# Altium schematic symbol library Module.SchLib: 22 symbols
Pins are listed as number, name and electrical type; pins without a type are passive.

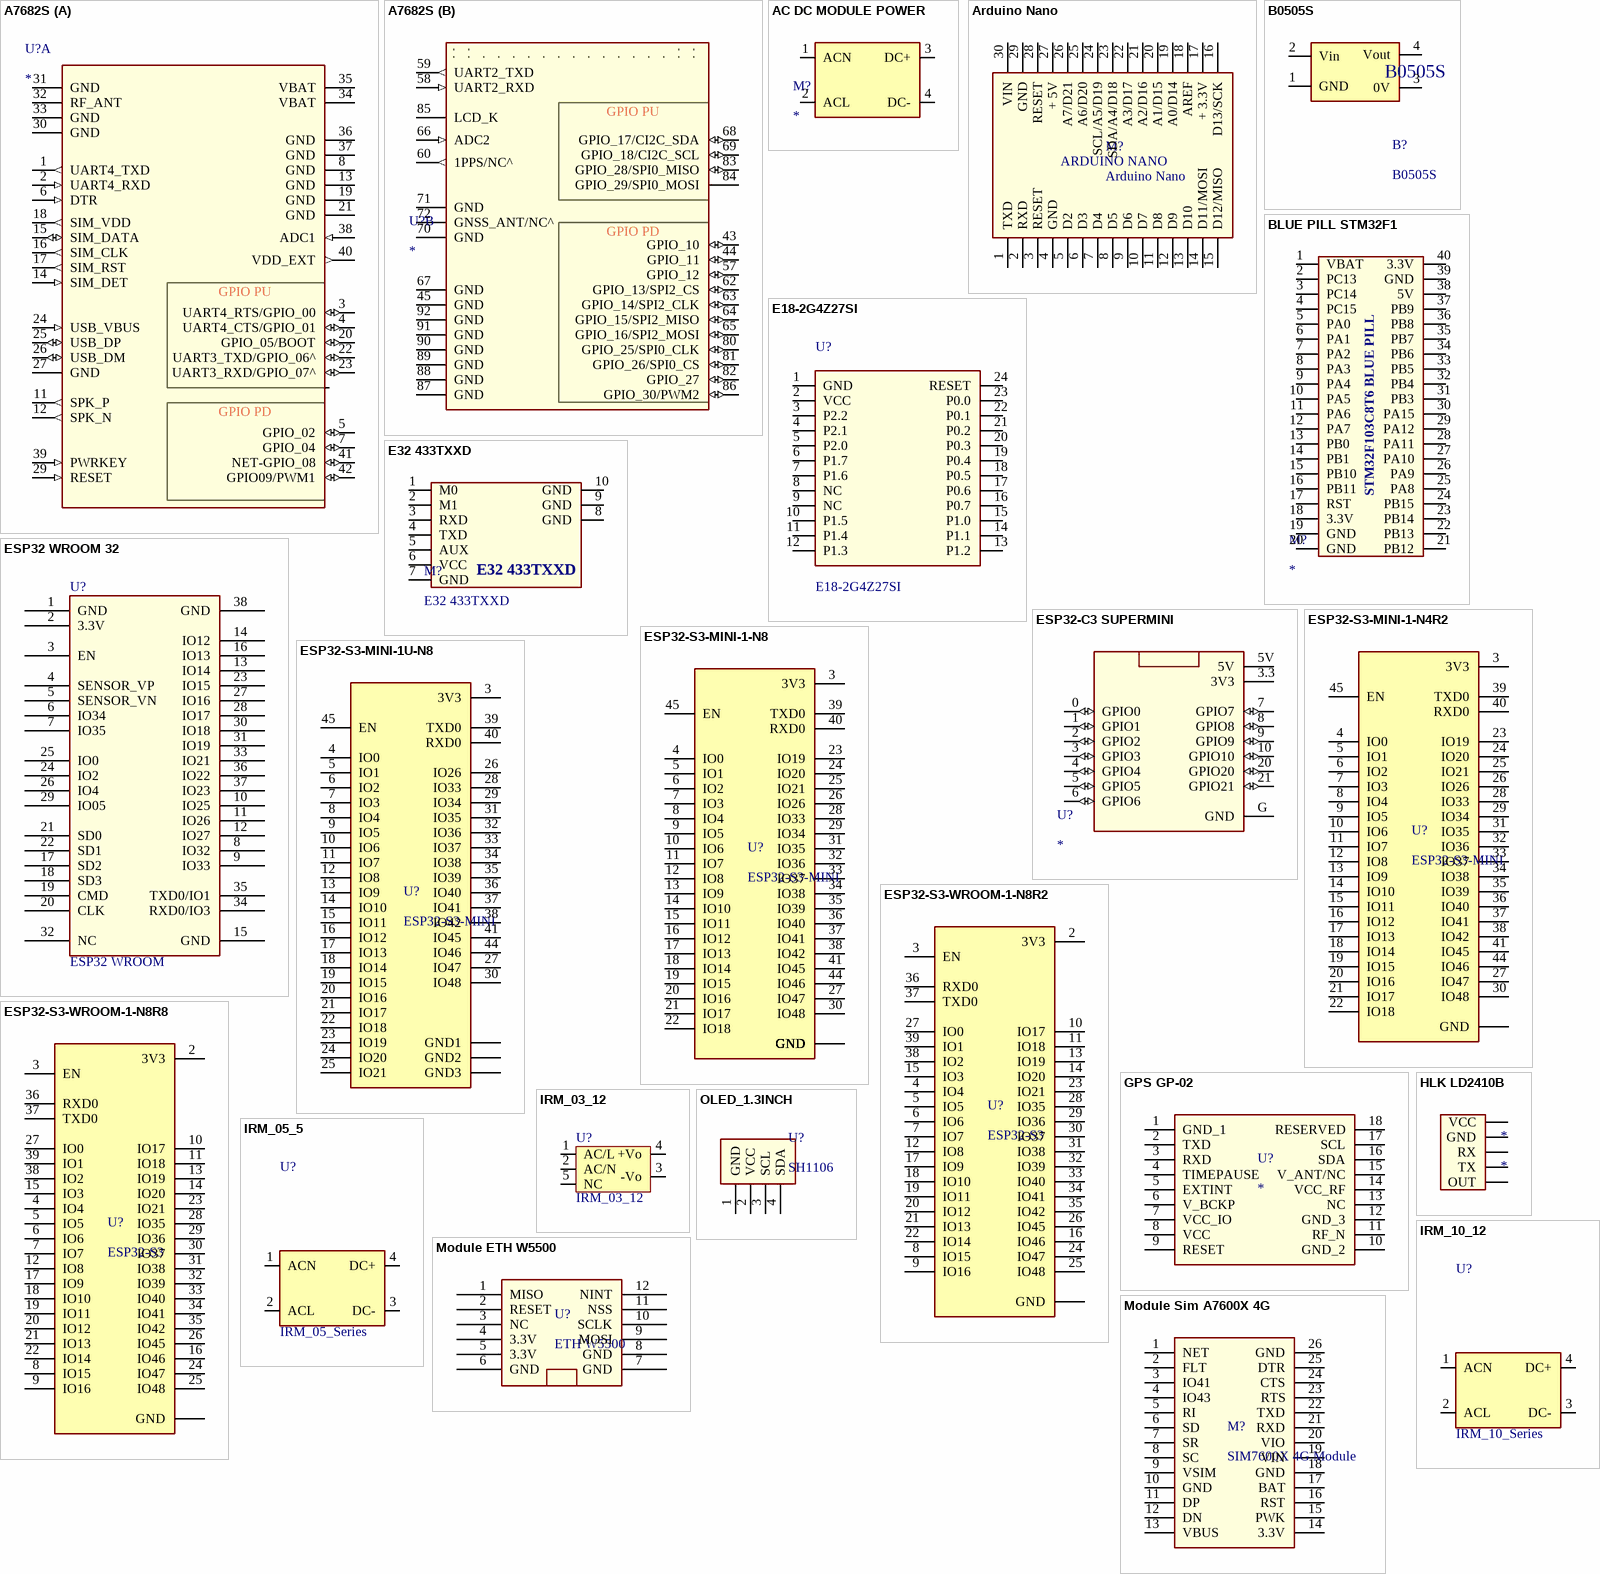
[diagram p0: symbols A7682S to OLED_1.3INCH]

## A7682S
designator U?
Cellular module; LTE Cat1 bis; GNSS (option); MP: SIM868; MF: MikroElektronika; Check_prices: https://www.snapeda.com/parts/SIM868/MikroElektronika/view-part/?ref=eda; Availability: Not in stock; Price: None; Package: None; SnapEDA_Link: https://www.snapeda.com/parts/SIM868/MikroElektronika/view-part/?ref=snap
footprint A7682S
part A pins: 1 UART4_TXD (out), 2 UART4_RXD (in), 3 UART4_RTS/GPIO_00 (io), 4 UART4_CTS/GPIO_01 (io), 5 GPIO_02 (io), 6 DTR (in), 7 GPIO_04 (io), 8 GND (power), 11 SPK_P (out), 12 SPK_N (out), 13 GND (power), 14 SIM_DET (in), 15 SIM_DATA (io), 16 SIM_CLK (out), 17 SIM_RST (out), 18 SIM_VDD (out), 19 GND (power), 20 GPIO_05/BOOT (io), 21 GND (power), 22 UART3_TXD/GPIO_06^ (io), 23 UART3_RXD/GPIO_07^ (io), 24 USB_VBUS (in), 25 USB_DP (io), 26 USB_DM (io), 27 GND (power), 28 NC, 29 RESET (in), 30 GND (power), 31 GND (power), 32 RF_ANT, 33 GND (power), 34 VBAT (power), 35 VBAT (power), 36 GND (power), 37 GND (power), 38 ADC1 (in), 39 PWRKEY (in), 40 VDD_EXT (out), 41 NET-GPIO_08 (io), 42 GPIO09/PWM1 (io)
part B pins: 9 NC, 10 NC, 43 GPIO_10 (io), 44 GPIO_11 (io), 45 GND (power), 46 NC, 47 NC, 48 NC, 49 NC, 50 NC, 51 NC, 52 NC, 53 NC, 54 NC, 55 NC, 56 NC, 57 GPIO_12 (io), 58 UART2_RXD (in), 59 UART2_TXD (out), 60 1PPS/NC^ (out), 61 NC, 62 GPIO_13/SPI2_CS (io), 63 GPIO_14/SPI2_CLK (io), 64 GPIO_15/SPI2_MISO (io), 65 GPIO_16/SPI2_MOSI (io), 66 ADC2 (in), 67 GND (power), 68 GPIO_17/CI2C_SDA (io), 69 GPIO_18/CI2C_SCL (io), 70 GND (power), 71 GND (power), 72 GNSS_ANT/NC^, 73 NC, 74 NC, 75 NC, 76 NC, 77 NC, 78 NC, 79 NC, 80 GPIO_25/SPI0_CLK (io), 81 GPIO_26/SPI0_CS (io), 82 GPIO_27 (io), 83 GPIO_28/SPI0_MISO (io), 84 GPIO_29/SPI0_MOSI, 85 LCD_K, 86 GPIO_30/PWM2 (io), 87 GND (power), 88 GND (power), 89 GND (power), 90 GND (power), 91 GND (power), 92 GND (power)
part A text: GPIO PU; GPIO PD
part B text: GPIO PU; GPIO PD

## AC DC MODULE POWER
designator M?
MODULE POWER
footprint Module Power 5V_700mA
pins: 1 ACN, 2 ACL, 3 DC+, 4 DC-

## Arduino Nano
designator M?
Module arduino nano
footprint Arduino nano (arduino nano)
pins: 1 TXD, 2 RXD, 3 RESET, 4 GND, 5 D2, 6 D3, 7 D4, 8 D5, 9 D6, 10 D7, 11 D8, 12 D9, 13 D10, 14 D11/MOSI, 15 D12/MISO, 16 D13/SCK, 17 + 3.3V, 18 AREF, 19 A0/D14, 20 A1/D15, 21 A2/D16, 22 A3/D17, 23 SDA/A4/D18, 24 SCL/A5/D19, 25 A6/D20, 26 A7/D21, 27 + 5V, 28 RESET, 29 GND, 30 VIN
text: ARDUINO NANO

## B0505S
designator B?
DIP; Ten_Linh_Kien: B0505S-1W SIP4 IC Converter DC-DC; Don_Vi: Con; Ma_Hang: MH003143; Chung_Loai: Cắm; Ghi_Chu: *; Kieu_Chan: *
footprint B0505S
pins: 1 GND, 2 Vin, 3 0V, 4 Vout

## BLUE PILL STM32F1
designator M?
Through hole
footprint BLUE PILL STM32F103C8T6
pins: 1 VBAT, 2 PC13, 3 PC14, 4 PC15, 5 PA0, 6 PA1, 7 PA2, 8 PA3, 9 PA4, 10 PA5, 11 PA6, 12 PA7, 13 PB0, 14 PB1, 15 PB10, 16 PB11, 17 RST, 18 3.3V, 19 GND, 20 GND, 21 PB12, 22 PB13, 23 PB14, 24 PB15, 25 PA8, 26 PA9, 27 PA10, 28 PA11, 29 PA12, 30 PA15, 31 PB3, 32 PB4, 33 PB5, 34 PB6, 35 PB7, 36 PB8, 37 PB9, 38 5V, 39 GND, 40 3.3V
text: STM32F103C8T6 BLUE PILL

## E18-2G4Z27SI
designator U?
Zigbee 2.4GHz
footprint E18-2G4Z27SI (22.5mm*16mm*2.40mm-S)
pins: 1 GND, 2 VCC, 3 P2.2, 4 P2.1, 5 P2.0, 6 P1.7, 7 P1.6, 8 NC, 9 NC, 10 P1.5, 11 P1.4, 12 P1.3, 13 P1.2, 14 P1.1, 15 P1.0, 16 P0.7, 17 P0.6, 18 P0.5, 19 P0.4, 20 P0.3, 21 P0.2, 22 P0.1, 23 P0.0, 24 RESET

## E32 433TXXD
designator M?
SX1278 E32-433T20D(3000m)/E32-433T30D(8000m), RF LORA UART 433MHz.
footprint E32 433T20D
footprint E32 433T30D
pins: 1 M0, 2 M1, 3 RXD, 4 TXD, 5 AUX, 6 VCC, 7 GND, 8 GND, 9 GND, 10 GND

## ESP32 WROOM 32
designator U?, comment ESP32 WROOM
ESP32 WROOM 32
footprint ESP32-WROOM-32U
pins: 1 GND, 2 3.3V, 3 EN, 4 SENSOR_VP, 5 SENSOR_VN, 6 IO34, 7 IO35, 8 IO32, 9 IO33, 10 IO25, 11 IO26, 12 IO27, 13 IO14, 14 IO12, 15 GND, 16 IO13, 17 SD2, 18 SD3, 19 CMD, 20 CLK, 21 SD0, 22 SD1, 23 IO15, 24 IO2, 25 IO0, 26 IO4, 27 IO16, 28 IO17, 29 IO05, 30 IO18, 31 IO19, 32 NC, 33 IO21, 34 RXD0/IO3, 35 TXD0/IO1, 36 IO22, 37 IO23, 38 GND

## ESP32-C3 SUPERMINI
designator U?
Super tiny ESP32-C3 board, SMD & Through hole; MF: Espressif Systems; MP: ESP32-C3 SuperMini_TH; SnapEDA_Link: https://www.snapeda.com/parts/ESP32-C3%20SuperMini_TH/Espressif+Systems/view-part/?ref=snap; Package: Package; Value: *; Check_prices: https://www.snapeda.com/parts/ESP32-C3%20SuperMini_TH/Espressif+Systems/view-part/?ref=eda
footprint ESP32-C3 SUPERMINI
pins: 0 GPIO0 (io), 1 GPIO1 (io), 2 GPIO2 (io), 3 GPIO3 (io), 3.3 3V3 (power), 4 GPIO4 (io), 5 GPIO5 (io), 5V (power), 6 GPIO6 (io), 7 GPIO7 (io), 8 GPIO8 (io), 9 GPIO9 (io), 10 GPIO10 (io), 20 GPIO20 (io), 21 GPIO21 (io), G GND (power)

## ESP32-S3-MINI-1-N4R2
designator U?, comment ESP32-S3-MINI
Bluetooth, WiFi 802.11b/g/n, Bluetooth v5.0 Transceiver Module 2.4GHz PCB Trace Surface Mount; MF: Espressif Systems; MP: ESP32-S3-MINI-1-N4R2; SnapEDA_Link: https://www.snapeda.com/parts/ESP32-S3-MINI-1-N4R2/Espressif+Systems/view-part/?ref=snap; Package: None; Check_prices: https://www.snapeda.com/parts/ESP32-S3-MINI-1-N4R2/Espressif+Systems/view-part/?ref=eda
footprint ESP32-S3-MINI-1-N4R2
pins: 1 GND (power), 2 GND (power), 3 3V3 (power), 4 IO0, 5 IO1, 6 IO2, 7 IO3, 8 IO4, 9 IO5, 10 IO6, 11 IO7, 12 IO8, 13 IO9, 14 IO10, 15 IO11, 16 IO12, 17 IO13, 18 IO14, 19 IO15, 20 IO16, 21 IO17, 22 IO18, 23 IO19, 24 IO20, 25 IO21, 26 IO26, 27 IO47, 28 IO33, 29 IO34, 30 IO48, 31 IO35, 32 IO36, 33 IO37, 34 IO38, 35 IO39, 36 IO40, 37 IO41, 38 IO42, 39 TXD0, 40 RXD0, 41 IO45, 42 GND (power), 43 GND (power), 44 IO46, 45 EN, 46 GND (power), 47 GND (power), 48 GND (power), 49 GND (power), 50 GND (power), 51 GND (power), 52 GND (power), 53 GND (power), 54 GND (power), 55 GND (power), 56 GND (power), 57 GND (power), 58 GND (power), 59 GND (power), 60 GND (power), 61 GND (power), 61_1 GND (power), 61_2 GND (power), 61_3 GND (power), 61_4 GND (power), 61_5 GND (power), 61_6 GND (power), 61_7 GND (power), 61_8 GND (power), 62 GND (power), 63 GND (power), 64 GND (power), 65 GND (power)

## ESP32-S3-MINI-1-N8
designator U?, comment ESP32-S3-MINI
ESP32-S3-MINI-1-N8; MF: {'manufacturer': u'Espressif Systems'}; Package: None; Price: None; Value: *; MP: ESP32-S3-MINI-1-N8; Availability: Unavailable
footprint ESP32-S3-MINI-1-N8
pins: 1 GND, 2 GND, 3 3V3 (power), 4 IO0, 5 IO1, 6 IO2, 7 IO3, 8 IO4, 9 IO5, 10 IO6, 11 IO7, 12 IO8, 13 IO9, 14 IO10, 15 IO11, 16 IO12, 17 IO13, 18 IO14, 19 IO15, 20 IO16, 21 IO17, 22 IO18, 23 IO19, 24 IO20, 25 IO21, 26 IO26, 27 IO47, 28 IO33, 29 IO34, 30 IO48, 31 IO35, 32 IO36, 33 IO37, 34 IO38, 35 IO39, 36 IO40, 37 IO41, 38 IO42, 39 TXD0, 40 RXD0, 41 IO45, 42 GND, 43 GND, 44 IO46, 45 EN, 46 GND, 47 GND, 48 GND, 49 GND, 50 GND, 51 GND, 52 GND, 53 GND, 54 GND, 55 GND, 56 GND, 57 GND, 58 GND, 59 GND, 60 GND, 61 GND, 61_1 GND, 61_2 GND, 61_3 GND, 61_4 GND, 61_5 GND, 61_6 GND, 61_7 GND, 61_8 GND, 62 GND, 63 GND, 64 GND, 65 GND

## ESP32-S3-MINI-1U-N8
designator U?, comment ESP32-S3-MINI
Bluetooth, WiFi 802.11b/g/n, Bluetooth v5.0 Transceiver Module 2.4GHz Antenna Not Included, U.FL Surface Mount; MF: Espressif Systems; MP: ESP32-S3-MINI-1U-N8; SnapEDA_Link: https://www.snapeda.com/parts/ESP32-S3-MINI-1U-N8/Espressif+Systems/view-part/?ref=snap; Package: VFQFN-56 Espressif Systems; Value: *; Check_prices: https://www.snapeda.com/parts/ESP32-S3-MINI-1U-N8/Espressif+Systems/view-part/?ref=eda
footprint ESP32-S3-MINI-1U-N8
pins: 1 GND1 (power), 2 GND1 (power), 3 3V3 (power), 4 IO0, 5 IO1, 6 IO2, 7 IO3, 8 IO4, 9 IO5, 10 IO6, 11 IO7, 12 IO8, 13 IO9, 14 IO10, 15 IO11, 16 IO12, 17 IO13, 18 IO14, 19 IO15, 20 IO16, 21 IO17, 22 IO18, 23 IO19, 24 IO20, 25 IO21, 26 IO26, 27 IO47, 28 IO33, 29 IO34, 30 IO48, 31 IO35, 32 IO36, 33 IO37, 34 IO38, 35 IO39, 36 IO40, 37 IO41, 38 IO42, 39 TXD0, 40 RXD0, 41 IO45, 42 GND1 (power), 43 GND1 (power), 44 IO46, 45 EN, 46 GND1 (power), 47 GND1 (power), 48 GND1 (power), 49 GND1 (power), 50 GND1 (power), 51 GND1 (power), 52 GND1 (power), 53 GND1 (power), 54 GND2 (power), 55 GND2 (power), 56 GND2 (power), 57 GND2 (power), 58 GND2 (power), 59 GND2 (power), 60 GND3 (power), 61_1 GND3 (power), 61_2 GND3 (power), 61_3 GND3 (power), 61_4 GND3 (power), 61_5 GND3 (power), 61_6 GND3 (power), 61_7 GND3 (power), 61_8 GND3 (power), 61_9 GND3 (power), 62 GND2 (power), 63 GND2 (power), 64 GND2 (power), 65 GND2 (power)

## ESP32-S3-WROOM-1-N8R2
designator U?, comment ESP32-S3
WiFi 802.11a/b/g/n, Bluetooth v5.0 Transceiver Module 2.4GHz Antenna Not Included -; MF: Espressif Systems; MP: ESP32-S3-WROOM-1-N8R2; Package: - Espressif Systems; Price: None; Check_prices: https://www.snapeda.com/parts/ESP32-S3-WROOM-1-N8R2/Espressif+Systems/view-part/?ref=eda; Value: *; SnapEDA_Link: https://www.snapeda.com/parts/ESP32-S3-WROOM-1-N8R2/Espressif+Systems/view-part/?ref=snap; Availability: In Stock; Purchase-URL: https://pricing.snapeda.com/search?q=ESP32-S3-WROOM-1-N8R2&ref=eda
footprint ESP32-S3-WROOM-1-N8R2
pins: 1 GND (power), 2 3V3 (power), 3 EN, 4 IO4, 5 IO5, 6 IO6, 7 IO7, 8 IO15, 9 IO16, 10 IO17, 11 IO18, 12 IO8, 13 IO19, 14 IO20, 15 IO3, 16 IO46, 17 IO9, 18 IO10, 19 IO11, 20 IO12, 21 IO13, 22 IO14, 23 IO21, 24 IO47, 25 IO48, 26 IO45, 27 IO0, 28 IO35, 29 IO36, 30 IO37, 31 IO38, 32 IO39, 33 IO40, 34 IO41, 35 IO42, 36 RXD0, 37 TXD0, 38 IO2, 39 IO1, 40 GND (power), 41_1 GND (power), 41_2 GND (power), 41_3 GND (power), 41_4 GND (power), 41_5 GND (power), 41_6 GND (power), 41_7 GND (power), 41_8 GND (power), 41_9 GND (power)

## ESP32-S3-WROOM-1-N8R8
designator U?, comment ESP32-S3
Bluetooth, WiFi 802.11b/g/n, Bluetooth v5.0 Transceiver Module 2.4GHz PCB Trace Surface Mount; MF: Espressif Systems; MP: ESP32-S3-WROOM-1-N8R8; Package: None; Price: None; Check_prices: https://www.snapeda.com/parts/ESP32-S3-WROOM-1-N8R8/Espressif+Systems/view-part/?ref=eda; Value: *; SnapEDA_Link: https://www.snapeda.com/parts/ESP32-S3-WROOM-1-N8R8/Espressif+Systems/view-part/?ref=snap; Availability: In Stock; Purchase-URL: https://pricing.snapeda.com/search?q=ESP32-S3-WROOM-1-N8R8&ref=eda
footprint ESP32S3WROOM1N8R8
pins: 1 GND (power), 2 3V3 (power), 3 EN, 4 IO4, 5 IO5, 6 IO6, 7 IO7, 8 IO15, 9 IO16, 10 IO17, 11 IO18, 12 IO8, 13 IO19, 14 IO20, 15 IO3, 16 IO46, 17 IO9, 18 IO10, 19 IO11, 20 IO12, 21 IO13, 22 IO14, 23 IO21, 24 IO47, 25 IO48, 26 IO45, 27 IO0, 28 IO35, 29 IO36, 30 IO37, 31 IO38, 32 IO39, 33 IO40, 34 IO41, 35 IO42, 36 RXD0, 37 TXD0, 38 IO2, 39 IO1, 40 GND (power), 41_1 GND (power), 41_2 GND (power), 41_3 GND (power), 41_4 GND (power), 41_5 GND (power), 41_6 GND (power), 41_7 GND (power), 41_8 GND (power), 41_9 GND (power)

## GPS GP-02
designator U?
GPS BDS GNSS GP-02 Module Ai-Thinker Breakout; ComponentLink1Description: Order; ComponentLink1URL: https://linhkien.cxtvn.com/1915-module-gps-gp02.html/page-56
footprint GP-02
pins: 1 GND_1, 2 TXD, 3 RXD, 4 TIMEPAUSE, 5 EXTINT, 6 V_BCKP, 7 VCC_IO, 8 VCC, 9 RESET, 10 GND_2, 11 RF_N, 12 GND_3, 13 NC, 14 VCC_RF, 15 V_ANT/NC, 16 SDA, 17 SCL, 18 RESERVED

## HLK LD2410B
designator *
footprint HLK LD2410B
pins: 1 OUT, 2 TX, 3 RX, 4 GND, 5 VCC

## IRM_03_12
designator U?
MODULE POWER MEANWELL
footprint IRM_03_12
pins: 1 AC/L, 2 AC/N, 3 -Vo, 4 +Vo, 5 NC

## IRM_05_5
designator U?, comment IRM_05_Series
MODULE POWER MEANWELL; ComponentLink1Description: DATASHEET; ComponentLink1URL: https://www.snapeda.com/parts/IRM-05-5/MEAN%20WELL/datasheet/; ComponentLink2Description: ODER; ComponentLink2URL: https://meanwellchinhhang.com/san-pham/nguon-meanwell-irm-05-5-5w-5v-1a/
footprint IRM_05_5
pins: 1 ACN, 2 ACL, 3 DC-, 4 DC+

## IRM_10_12
designator U?, comment IRM_10_Series
MODULE POWER MEANWELL
footprint IRM_10_12
pins: 1 ACN, 2 ACL, 3 DC-, 4 DC+

## Module ETH W5500
designator U?, comment ETH W5500
Module ETH W5500; ComponentLink1Description: Order; ComponentLink1URL: https://www.thegioiic.com/usr-es1-w5500-mach-chuyen-doi-ethernet-giao-tiep-spi
footprint Module ETH W5500
pins: 1 MISO, 2 RESET, 3 NC, 4 3.3V, 5 3.3V, 6 GND, 7 GND, 8 GND, 9 MOSI, 10 SCLK, 11 NSS, 12 NINT

## Module Sim A7600X 4G
designator M?, comment SIM7600X 4G Module
ComponentLink1Description: Order; ComponentLink1URL: https://www.proe.vn/sim7600g-h-4g-module
footprint SIM7600X 4G Module
pins: 1 NET, 2 FLT, 3 IO41, 4 IO43, 5 RI, 6 SD, 7 SR, 8 SC, 9 VSIM, 10 GND, 11 DP, 12 DN, 13 VBUS, 14 3.3V, 15 PWK, 16 RST, 17 BAT, 18 GND, 19 VIN, 20 VIO, 21 RXD, 22 TXD, 23 RTS, 24 CTS, 25 DTR, 26 GND

## OLED_1.3INCH
designator U?, comment SH1106
OLED SH1106 1.3INCH 128X64; ComponentLink1Description: Order; ComponentLink1URL: https://www.thegioiic.com/lcd-oled-sh1106-1-3inch-128x64-chu-xanh-duong-4-chan-giao-tiep-iic
footprint OLED_1.3INCH (SH1106)
pins: 1 GND, 2 VCC, 3 SCL, 4 SDA